# Altium footprint library USB-C40-S-RA-BK-30-TR.PcbLib: 1 footprints
Each footprint in its own frame and in the unit in brackets; x right, y up, seen from the top. Pads: shape width x height; smd on the part's side, far side on the other; paste and mask are expansions set on the pad; w line width, h text height; cw(c..) or ccw(c..) is an arc to the next point about the centre after c.
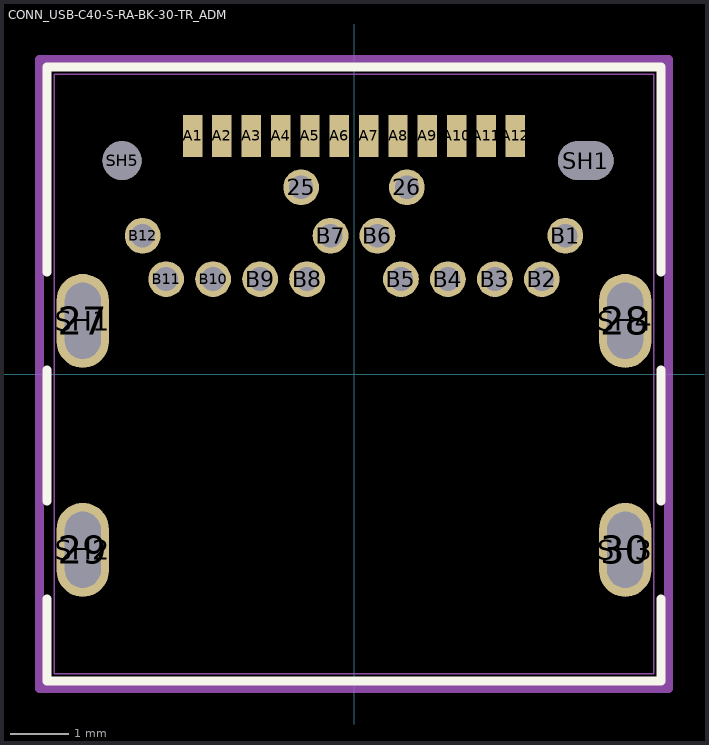
[diagram p0: the footprint, top view; thin cyan lines are the x and y axes]

## CONN_USB-C40-S-RA-BK-30-TR_ADM [mil]
pads (36):
  round 24 / inner round 60 / far side round 24 hole 16 paste-12 mask+0: 25(-35.43,125.21) 26(35.43,125.21) B1(141.73,92.73) B2(125.98,63.6) B3(94.49,63.6) B4(62.99,63.6) B5(31.5,63.6) B6(15.75,92.73) B7(-15.75,92.73) B8(-31.5,63.6) B9(-62.99,63.6) B10(-94.49,63.6) B11(-125.98,63.6) B12(-141.73,92.73)
  oval 35x63 smd paste-31.5 mask-31.5: 27(-181.89,35.65) 28(181.89,35.65) 29(-181.89,-117.9) 30(181.89,-117.9)
  rect 13x28 smd paste+0 mask+0: A1(-108.27,159.66) A2(-88.58,159.66) A3(-68.9,159.66) A4(-49.21,159.66) A5(-29.53,159.66) A6(-9.84,159.66) A7(9.84,159.66) A8(29.53,159.66) A9(49.21,159.66) A10(68.9,159.66) A11(88.58,159.66) A12(108.27,159.66)
  oval 24x51 hole 24 slot 51 at 90 deg unplated paste-99999 mask-12: SH1(-181.89,35.65) SH2(-181.89,-117.9) SH3(181.89,-117.9) SH4(181.89,35.65)
  oval 36.97x25.98 hole 25.98 slot 36.97 at 0 deg unplated paste-99999 mask-12: SH1(155.51,143.13)
  round 26 / inner round 60 / far side round 26 hole 26 unplated paste-13 mask+0: SH5(-155.51,143.13)
Top Overlay:
  lines w6: -206,-150.74 -206,-206 206,-206 206,-150.74 ; -206,-85.05 -206,2.8 ; -206,68.49 -206,206 206,206 206,68.49 ; 206,-85.05 206,2.8
Mechanical 13:
  lines w1: -201,-201 -201,201 201,201 201,-201 -201,-201
Mechanical 15:
  lines w6: -211,-211 211,-211 211,211 -211,211 -211,-211
Multi-Layer:
  lines w24: -181.89,-131.4 -181.89,-104.4 ; -181.89,22.15 -181.89,49.15 ; 181.89,-131.4 181.89,-104.4 ; 181.89,22.15 181.89,49.15
  lines w26: 150.01,143.13 161.01,143.13